# EAGLE library part KK-156-7 (library con-molex_sgq)
KK 156 HEADER Source: http://www.molex.com/pdm_docs/sd/026604100_sd.pdf
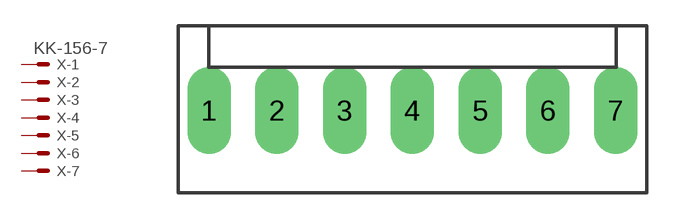
[diagram p117: symbol with the pads of KK-156-7; footprint KK-156-7]

Designator prefix X; gates -1=MV -2=M -3=M -4=M -5=M -6=M -7=M

## KK-156-7 (MF: MOLEX; OC_FARNELL: unknown; OC_NEWARK: unknown)  [KK-156-7]
1  -1:S  pas
2  -2:S  pas
3  -3:S  pas
4  -4:S  pas
5  -5:S  pas
6  -6:S  pas
7  -7:S  pas

## Footprint KK-156-7 (pad centres in mm)
KK® 396 Header, Vertical, Friction Lock, 7 Circuits, Tin (Sn) Plating Datasheet <http://www.molex.com/pdm_docs/sd/026604070_sd.pdf>
drill 1.7 pad 2.184 long: 1 -11.88,0; 2 -7.92,0; 3 -3.96,0; 4 0,0; 5 3.96,0; 6 7.92,0; 7 11.88,0